# Altium schematic symbol library SCH - MCU - NUVOTON - NUVOTON M032LD2AE.SchLib: 1 symbol
Pins are listed as number, name and electrical type; pins without a type are passive.

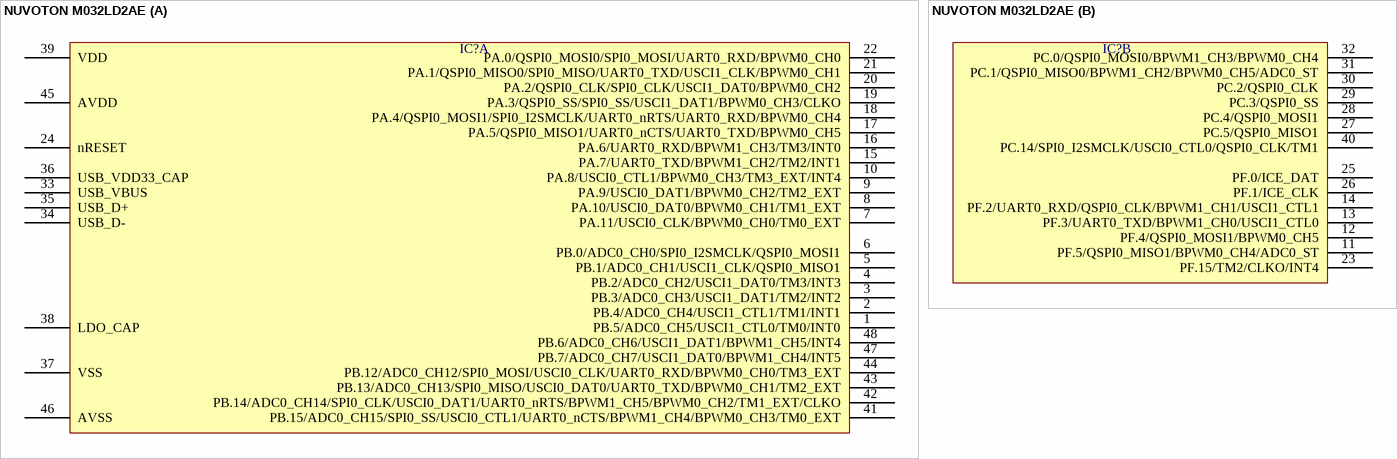
[diagram p0: symbol NUVOTON M032LD2AE]

## NUVOTON M032LD2AE
designator IC?  (value not drawn)
part A pins: 1 PB.5/ADC0_CH5/USCI1_CTL0/TM0/INT0, 2 PB.4/ADC0_CH4/USCI1_CTL1/TM1/INT1, 3 PB.3/ADC0_CH3/USCI1_DAT1/TM2/INT2, 4 PB.2/ADC0_CH2/USCI1_DAT0/TM3/INT3, 5 PB.1/ADC0_CH1/USCI1_CLK/QSPI0_MISO1, 6 PB.0/ADC0_CH0/SPI0_I2SMCLK/QSPI0_MOSI1, 7 PA.11/USCI0_CLK/BPWM0_CH0/TM0_EXT, 8 PA.10/USCI0_DAT0/BPWM0_CH1/TM1_EXT, 9 PA.9/USCI0_DAT1/BPWM0_CH2/TM2_EXT, 10 PA.8/USCI0_CTL1/BPWM0_CH3/TM3_EXT/INT4, 15 PA.7/UART0_TXD/BPWM1_CH2/TM2/INT1, 16 PA.6/UART0_RXD/BPWM1_CH3/TM3/INT0, 17 PA.5/QSPI0_MISO1/UART0_nCTS/UART0_TXD/BPWM0_CH5, 18 PA.4/QSPI0_MOSI1/SPI0_I2SMCLK/UART0_nRTS/UART0_RXD/BPWM0_CH4, 19 PA.3/QSPI0_SS/SPI0_SS/USCI1_DAT1/BPWM0_CH3/CLKO, 20 PA.2/QSPI0_CLK/SPI0_CLK/USCI1_DAT0/BPWM0_CH2, 21 PA.1/QSPI0_MISO0/SPI0_MISO/UART0_TXD/USCI1_CLK/BPWM0_CH1, 22 PA.0/QSPI0_MOSI0/SPI0_MOSI/UART0_RXD/BPWM0_CH0, 24 nRESET, 33 USB_VBUS, 34 USB_D-, 35 USB_D+, 36 USB_VDD33_CAP, 37 VSS, 38 LDO_CAP, 39 VDD, 41 PB.15/ADC0_CH15/SPI0_SS/USCI0_CTL1/UART0_nCTS/BPWM1_CH4/BPWM0_CH3/TM0_EXT, 42 PB.14/ADC0_CH14/SPI0_CLK/USCI0_DAT1/UART0_nRTS/BPWM1_CH5/BPWM0_CH2/TM1_EXT/CLKO, 43 PB.13/ADC0_CH13/SPI0_MISO/USCI0_DAT0/UART0_TXD/BPWM0_CH1/TM2_EXT, 44 PB.12/ADC0_CH12/SPI0_MOSI/USCI0_CLK/UART0_RXD/BPWM0_CH0/TM3_EXT, 45 AVDD, 46 AVSS, 47 PB.7/ADC0_CH7/USCI1_DAT0/BPWM1_CH4/INT5, 48 PB.6/ADC0_CH6/USCI1_DAT1/BPWM1_CH5/INT4
part B pins: 11 PF.5/QSPI0_MISO1/BPWM0_CH4/ADC0_ST, 12 PF.4/QSPI0_MOSI1/BPWM0_CH5, 13 PF.3/UART0_TXD/BPWM1_CH0/USCI1_CTL0, 14 PF.2/UART0_RXD/QSPI0_CLK/BPWM1_CH1/USCI1_CTL1, 23 PF.15/TM2/CLKO/INT4, 25 PF.0/ICE_DAT, 26 PF.1/ICE_CLK, 27 PC.5/QSPI0_MISO1, 28 PC.4/QSPI0_MOSI1, 29 PC.3/QSPI0_SS, 30 PC.2/QSPI0_CLK, 31 PC.1/QSPI0_MISO0/BPWM1_CH2/BPWM0_CH5/ADC0_ST, 32 PC.0/QSPI0_MOSI0/BPWM1_CH3/BPWM0_CH4, 40 PC.14/SPI0_I2SMCLK/USCI0_CTL0/QSPI0_CLK/TM1